# Altium integrated library PJ-038B.IntLib: 1 symbol
Pins are listed as number, name and electrical type; pins without a type are passive.

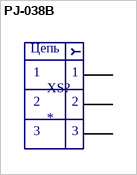
[diagram p0: symbol PJ-038B]

## PJ-038B
designator XS?
2.5 x 6.2 mm, 2.5 A, Horizontal, Panel Mount, Dc Power Jack Connector; MF: CUI Devices; MP: PJ-038B; Package: None; Price: None; Value: *; SnapEDA_Link: https://www.snapeda.com/parts/PJ-038B/CUI%20Devices/view-part/1494366/?ref=snap; Availability: Unavailable
footprint CUI_PJ-038B
pins: 1, 2, 3
text: Цепь